# Altium schematic symbol library SB560-T.SchLib: 1 symbol
Pins are listed as number, name and electrical type; pins without a type are passive.

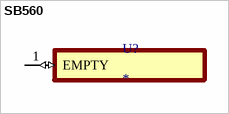
[diagram p0: symbol SB560]

## SB560
designator U?
MF: {'manufacturer': u'Diodes Inc.'}; MP: SB560; Package: None; Price: None; Value: *; Availability: Unavailable
footprint DIOAD1990W125L900D530
pins: 1 EMPTY (io)